# Altium footprint library LM_WE-SL2.PcbLib: 1 footprints
Each footprint in its own frame and in the unit in brackets; x right, y up, seen from the top. Pads: shape width x height; smd on the part's side, far side on the other; paste and mask are expansions set on the pad; w line width, h text height; cw(c..) or ccw(c..) is an arc to the next point about the centre after c.
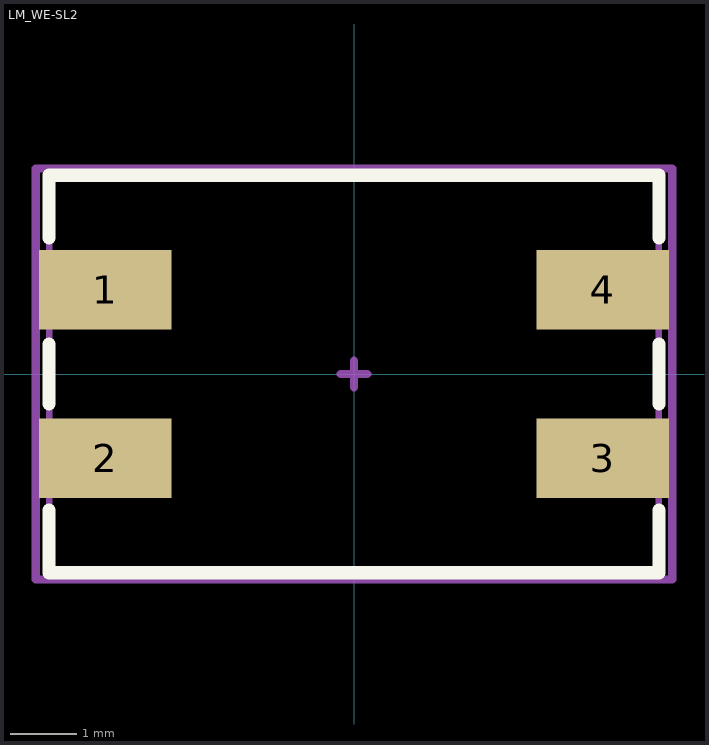
[diagram p0: the footprint, top view; thin cyan lines are the x and y axes]

## LM_WE-SL2 [mm] "SMD Inductor, 4-Leads, Body 9.2x6.0mm"
height 5
pads (4):
  rect 2x1.2 smd: 1(-3.75,1.27) 2(-3.75,-1.27) 3(3.75,-1.27) 4(3.75,1.27)
Top Overlay:
  lines w0.2: -4.6,-2.05 -4.6,-3 4.6,-3 4.6,-2.05 ; -4.6,-0.45 -4.6,0.45 ; -4.6,2.05 -4.6,3 4.6,3 4.6,2.05 ; 4.6,-0.45 4.6,0.45
Mechanical 13:
  lines w0.1: -4.6,-3 4.6,-3 4.6,3 -4.6,3 -4.6,-3
Mechanical 15:
  lines w0.127: -0.2,0 0.2,0 ; 0,-0.2 0,0.2 ; -4.8,-3.1 4.8,-3.1 4.8,3.1 -4.8,3.1 -4.8,-3.1
Mechanical 17:
  text "'.Designator'" at -4.8,-2.7 h0.51
Mechanical 19:
  text "'.Comment'" at -4.8,-2.7 h0.51
3D body "74422x.stp": height 5.05, standoff 0.05, extent -4.6,-3 4.6,3